# Altium integrated library Linear Technology Comparators.IntLib: 630 symbols (part 4 of 24)
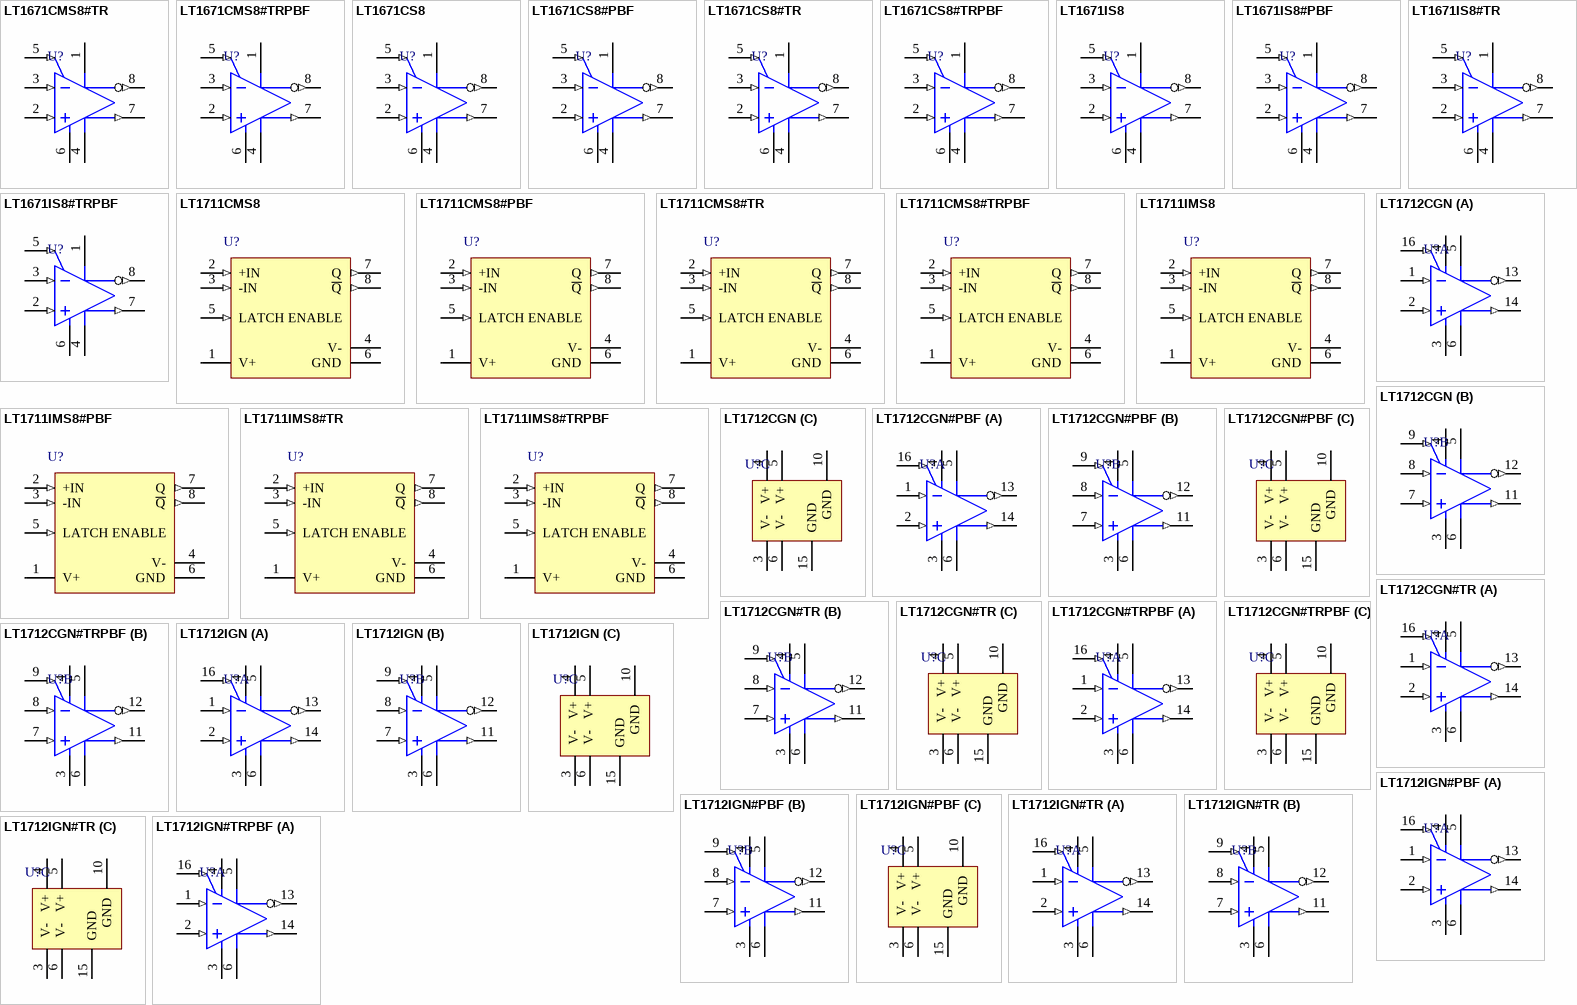
[diagram p27: symbols LT1671CMS8#TR to LT1712IGN#TRPBF]

## LT1712IGN
designator U?
4.5 ns, 3 V / 5 V / + / - 5 V, Rail-to-Rail Comparator, 2 Channels, 2.4 to 12 V or + / - 2.4 to + / - 6 V, -40 to +85 degC, 16-pin Plastic SSOP (GN16); Generic Part Number: LT1712; Manufacturer: Linear Technology; PartNumber: LT1712IGN; Channels (#): 2; Prop Delay (us): 0.0045; Supply Current (uA) Typical: 10000; Vos (mV) Guaranteed: 5; Vos (mV) Typical: 0.5; Vs Max (V): 12; Vs Min (V): 2.4; PackageReference: GN16; PackageDescription: 16-Pin Plastic SSOP, Body 4.89 x 3.9 mm, Pitch 0.635 mm; Supplier 1: Digi-Key; Supplier Part Number 1: LT1712IGN-ND; Supplier 2: Newark; Supplier Part Number 2: 57M5762; Features: Comparator, Rail-to-Rail In/Out, Output Latch; RoHS: N; Supply Voltage Range: 2.4 to 12 V or + / -2.4 to + / -6 V; Mounting Technology: Surface Mount; ComponentLink1Description: Manufacturer URL; ComponentLink1URL: http://www.linear.com/; ComponentLink2Description: Datasheet; ComponentLink2URL: http://cds.linear.com/docs/en/datasheet/171112f.pdf; ComponentLink3Description: Package Specification; ComponentLink3URL: http://cds.linear.com/docs/en/packaging/05081641_B_GN16.pdf
footprint LT-GN16_N (SOP, 16-Leads, Body 4.89x3.9mm, Pitch 0.635mm, , IPC Medium Density)
footprint LT-GN16_L (SOP, 16-Leads, Body 4.89x3.9mm, Pitch 0.635mm, , IPC High Density)
footprint LT-GN16_M (SOP, 16-Leads, Body 4.89x3.9mm, Pitch 0.635mm, , IPC Low Density)
pins on every part: 3 V- (power), 4 V+ (power), 5 V+ (power), 6 V- (power)
part A pins: 1 -INA (in), 2 +INA (in), 13 ~{Q}A (out), 14 QA (out), 16 LATCHENABEL A (in)
part B pins: 7 +INB (in), 8 -INB (in), 9 LATCHENABLE B (in), 11 QB (out), 12 ~{Q}B (out)
part C pins: 10 GND (power), 15 GND (power)

## LT1712IGN#PBF
designator U?
4.5ns, 3 V / 5 V / + / - 5 V, Rail-to-Rail Comparator, 2 Channels, 2.4 to 12 V or + / - 2.4 to + / - 6 V, -40 to +85 degC, 16-pin Plastic SSOP (GN16); Generic Part Number: LT1712; Manufacturer: Linear Technology; PartNumber: LT1712IGN#PBF; Channels (#): 2; Prop Delay (us): 0.0045; Supply Current (uA) Typical: 10000; Vos (mV) Guaranteed: 5; Vos (mV) Typical: 0.5; Vs Max (V): 12; Vs Min (V): 2.4; PackageReference: GN16; PackageDescription: 16-Pin Plastic SSOP, Body 4.89 x 3.9 mm, Pitch 0.635 mm; Supplier 1: Digi-Key; Supplier Part Number 1: LT1712IGN#PBF-ND; Supplier 2: Newark; Supplier Part Number 2: 57M5763; Features: Comparator, Rail-to-Rail In/Out, Output Latch; RoHS: Y; Supply Voltage Range: 2.4 to 12 V or + / -2.4 to + / -6 V; Mounting Technology: Surface Mount; ComponentLink1Description: Manufacturer URL; ComponentLink1URL: http://www.linear.com/; ComponentLink2Description: Datasheet; ComponentLink2URL: http://cds.linear.com/docs/en/datasheet/171112f.pdf; ComponentLink3Description: Package Specification; ComponentLink3URL: http://cds.linear.com/docs/en/packaging/05081641_B_GN16.pdf
footprint LT-GN16_N (SOP, 16-Leads, Body 4.89x3.9mm, Pitch 0.635mm, , IPC Medium Density)
footprint LT-GN16_L (SOP, 16-Leads, Body 4.89x3.9mm, Pitch 0.635mm, , IPC High Density)
footprint LT-GN16_M (SOP, 16-Leads, Body 4.89x3.9mm, Pitch 0.635mm, , IPC Low Density)
pins on every part: 3 V- (power), 4 V+ (power), 5 V+ (power), 6 V- (power)
part A pins: 1 -INA (in), 2 +INA (in), 13 ~{Q}A (out), 14 QA (out), 16 LATCHENABEL A (in)
part B pins: 7 +INB (in), 8 -INB (in), 9 LATCHENABLE B (in), 11 QB (out), 12 ~{Q}B (out)
part C pins: 10 GND (power), 15 GND (power)

## LT1712IGN#TR
designator U?
4.5ns, 3 V / 5 V / + / - 5 V, Rail-to-Rail Comparator, 2 Channels, 2.4 to 12 V or + / - 2.4 to + / - 6 V, -40 to +85 degC, 16-pin Plastic SSOP (GN16), Tape and Reel; Generic Part Number: LT1712; Manufacturer: Linear Technology; PartNumber: LT1712IGN#TR; Channels (#): 2; Prop Delay (us): 0.0045; Supply Current (uA) Typical: 10000; Vos (mV) Guaranteed: 5; Vos (mV) Typical: 0.5; Vs Max (V): 12; Vs Min (V): 2.4; PackageReference: GN16; PackageDescription: 16-Pin Plastic SSOP, Body 4.89 x 3.9 mm, Pitch 0.635 mm; Supplier 1: Digi-Key; Supplier Part Number 1: LT1712IGN#TR-ND; Features: Comparator, Rail-to-Rail In/Out, Output Latch; RoHS: N; Supply Voltage Range: 2.4 to 12 V or + / -2.4 to + / -6 V; Mounting Technology: Surface Mount; ComponentLink1Description: Manufacturer URL; ComponentLink1URL: http://www.linear.com/; ComponentLink2Description: Datasheet; ComponentLink2URL: http://cds.linear.com/docs/en/datasheet/171112f.pdf; ComponentLink3Description: Package Specification; ComponentLink3URL: http://cds.linear.com/docs/en/packaging/05081641_B_GN16.pdf
footprint LT-GN16_N (SOP, 16-Leads, Body 4.89x3.9mm, Pitch 0.635mm, , IPC Medium Density)
footprint LT-GN16_L (SOP, 16-Leads, Body 4.89x3.9mm, Pitch 0.635mm, , IPC High Density)
footprint LT-GN16_M (SOP, 16-Leads, Body 4.89x3.9mm, Pitch 0.635mm, , IPC Low Density)
pins on every part: 3 V- (power), 4 V+ (power), 5 V+ (power), 6 V- (power)
part A pins: 1 -INA (in), 2 +INA (in), 13 ~{Q}A (out), 14 QA (out), 16 LATCHENABEL A (in)
part B pins: 7 +INB (in), 8 -INB (in), 9 LATCHENABLE B (in), 11 QB (out), 12 ~{Q}B (out)
part C pins: 10 GND (power), 15 GND (power)

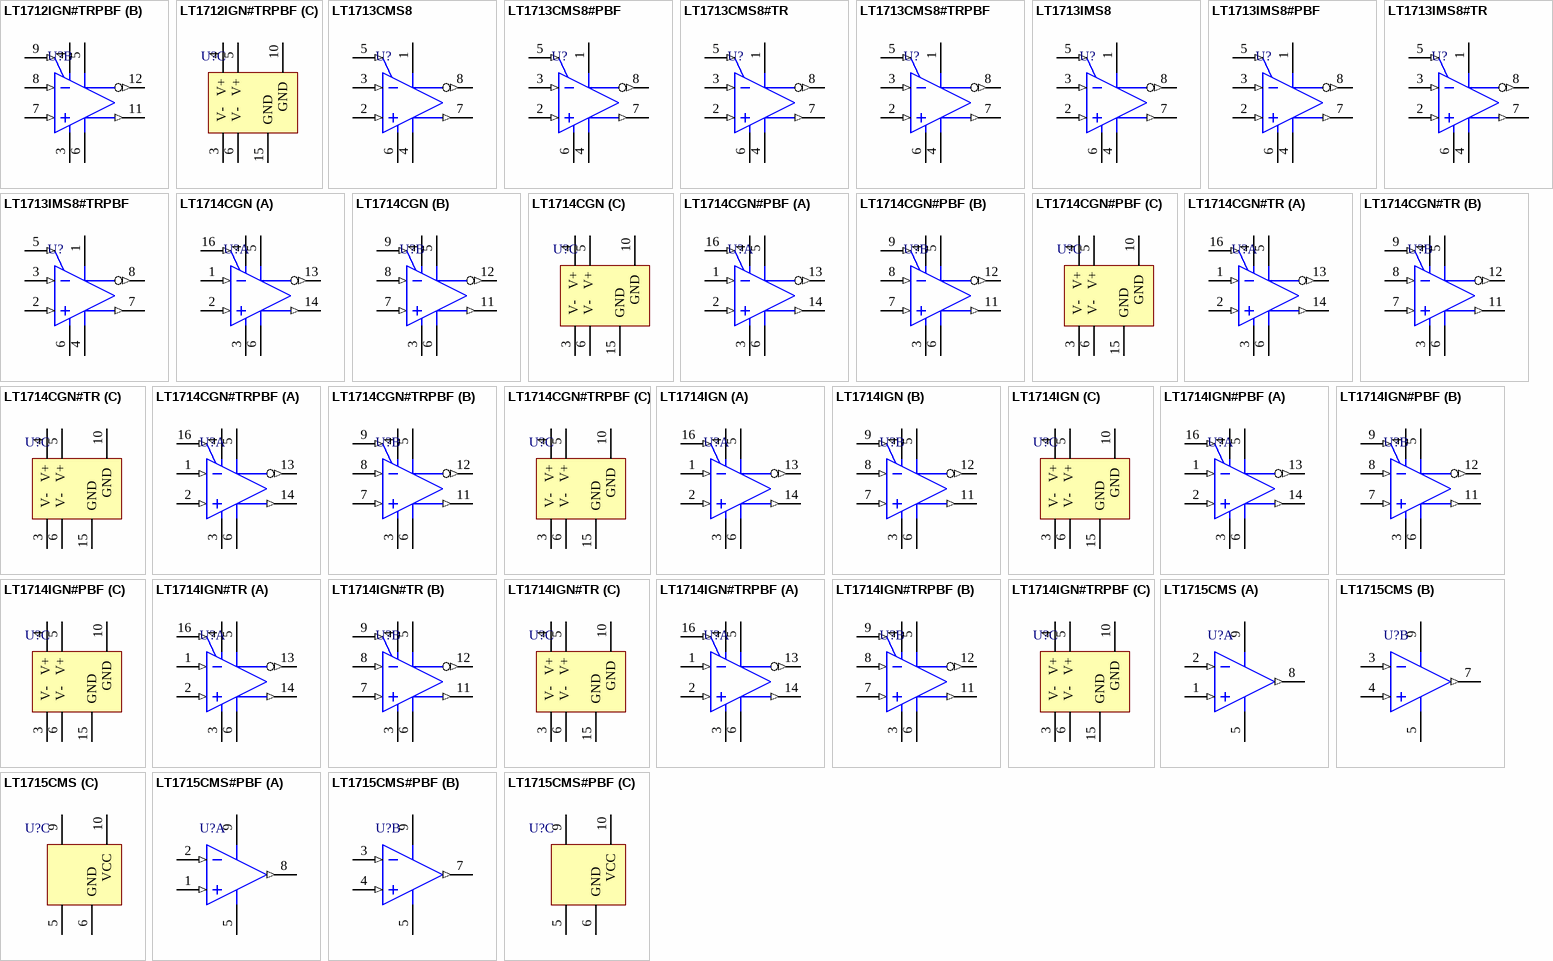
[diagram p4: symbols LT1712IGN#TRPBF to LT1715CMS#PBF]

## LT1712IGN#TRPBF
designator U?
4.5ns, 3 V / 5 V / + / - 5 V, Rail-to-Rail Comparator, 2 Channels, 2.4 to 12 V or + / - 2.4 to + / - 6 V, -40 to +85 degC, 16-pin Plastic SSOP (GN16), Tape and Reel; Generic Part Number: LT1712; Manufacturer: Linear Technology; PartNumber: LT1712IGN#TRPBF; Channels (#): 2; Prop Delay (us): 0.0045; Supply Current (uA) Typical: 10000; Vos (mV) Guaranteed: 5; Vos (mV) Typical: 0.5; Vs Max (V): 12; Vs Min (V): 2.4; PackageReference: GN16; PackageDescription: 16-Pin Plastic SSOP, Body 4.89 x 3.9 mm, Pitch 0.635 mm; Supplier 1: Digi-Key; Supplier Part Number 1: LT1712IGN#TRPBF-ND; Features: Comparator, Rail-to-Rail In/Out, Output Latch; RoHS: Y; Supply Voltage Range: 2.4 to 12 V or + / -2.4 to + / -6 V; Mounting Technology: Surface Mount; ComponentLink1Description: Manufacturer URL; ComponentLink1URL: http://www.linear.com/; ComponentLink2Description: Datasheet; ComponentLink2URL: http://cds.linear.com/docs/en/datasheet/171112f.pdf; ComponentLink3Description: Package Specification; ComponentLink3URL: http://cds.linear.com/docs/en/packaging/05081641_B_GN16.pdf
footprint LT-GN16_N (SOP, 16-Leads, Body 4.89x3.9mm, Pitch 0.635mm, , IPC Medium Density)
footprint LT-GN16_L (SOP, 16-Leads, Body 4.89x3.9mm, Pitch 0.635mm, , IPC High Density)
footprint LT-GN16_M (SOP, 16-Leads, Body 4.89x3.9mm, Pitch 0.635mm, , IPC Low Density)
pins on every part: 3 V- (power), 4 V+ (power), 5 V+ (power), 6 V- (power)
part A pins: 1 -INA (in), 2 +INA (in), 13 ~{Q}A (out), 14 QA (out), 16 LATCHENABEL A (in)
part B pins: 7 +INB (in), 8 -INB (in), 9 LATCHENABLE B (in), 11 QB (out), 12 ~{Q}B (out)
part C pins: 10 GND (power), 15 GND (power)

## LT1713CMS8
designator U?
7 ns, Low Power, 3 V / 5 V / + / - 5 V Rail-to-Rail Comparator, 1 Channel, 2.4 to 12 V, 0 to +70 degC, 8-pin Plastic MSOP (MS8); Generic Part Number: LT1713; Manufacturer: Linear Technology; PartNumber: LT1713CMS8; Channels (#): 1; Prop Delay (us): 0.007; Supply Current (uA) Typical: 4000; Vos (mV) Typical: 3; Vs Max (V): 12; Vs Min (V): 2.4; PackageReference: MS8; PackageDescription: 8-Pin Plastic MSOP, Body 3 x 3 mm, Pitch 0.65 mm; Supplier 1: Digi-Key; Supplier Part Number 1: LT1713CMS8-ND; Supplier 2: Newark; Supplier Part Number 2: 57M5766; Features: Comparator, Rail-to-Rail In/Out, Output Latch; RoHS: N; Supply Voltage Range: 2.4 to 12 V; Mounting Technology: Surface Mount; ComponentLink1Description: Manufacturer URL; ComponentLink1URL: http://www.linear.com/; ComponentLink2Description: Datasheet; ComponentLink2URL: http://cds.linear.com/docs/en/datasheet/171314f.pdf; ComponentLink3Description: Package Specification; ComponentLink3URL: http://cds.linear.com/docs/en/packaging/MSOP_8_05-08-1660.pdf
footprint LT-MS8_N (SOP, 8-Leads, Body 3x3mm, Pitch 0.65mm, IPC Medium Density)
footprint LT-MS8_L (SOP, 8-Leads, Body 3x3mm, Pitch 0.65mm, IPC High Density)
footprint LT-MS8_M (SOP, 8-Leads, Body 3x3mm, Pitch 0.65mm, IPC Low Density)
pins: 1 V+ (power), 2 +IN (in), 3 -IN (in), 4 V- (power), 5 LATCHENABLE (in), 6 GND (power), 7 QOUT (out), 8 ~{Q}OUT (out)

## LT1713CMS8#PBF
designator U?
7 ns, Low Power, 3 V / 5 V / + / - 5 V Rail-to-Rail Comparator, 1 Channel, 2.4 to 12 V, 0 to +70 degC, 8-pin Plastic MSOP (MS8); Generic Part Number: LT1713; Manufacturer: Linear Technology; PartNumber: LT1713CMS8#PBF; Channels (#): 1; Prop Delay (us): 0.007; Supply Current (uA) Typical: 4000; Vos (mV) Typical: 3; Vs Max (V): 12; Vs Min (V): 2.4; PackageReference: MS8; PackageDescription: 8-Pin Plastic MSOP, Body 3 x 3 mm, Pitch 0.65 mm; Supplier 1: Digi-Key; Supplier Part Number 1: LT1713CMS8#PBF-ND; Supplier 2: Farnell; Supplier Part Number 2: 1417740; Supplier 3: Newark; Supplier Part Number 3: 57M5767; Features: Comparator, Rail-to-Rail In/Out, Output Latch; RoHS: Y; Supply Voltage Range: 2.4 to 12 V; Mounting Technology: Surface Mount; ComponentLink1Description: Manufacturer URL; ComponentLink1URL: http://www.linear.com/; ComponentLink2Description: Datasheet; ComponentLink2URL: http://cds.linear.com/docs/en/datasheet/171314f.pdf; ComponentLink3Description: Package Specification; ComponentLink3URL: http://cds.linear.com/docs/en/packaging/MSOP_8_05-08-1660.pdf
footprint LT-MS8_N (SOP, 8-Leads, Body 3x3mm, Pitch 0.65mm, IPC Medium Density)
footprint LT-MS8_L (SOP, 8-Leads, Body 3x3mm, Pitch 0.65mm, IPC High Density)
footprint LT-MS8_M (SOP, 8-Leads, Body 3x3mm, Pitch 0.65mm, IPC Low Density)
pins: 1 V+ (power), 2 +IN (in), 3 -IN (in), 4 V- (power), 5 LATCHENABLE (in), 6 GND (power), 7 QOUT (out), 8 ~{Q}OUT (out)

## LT1713CMS8#TR
designator U?
7 ns, Low Power, 3 V / 5 V / + / - 5 V Rail-to-Rail Comparator, 1 Channel, 2.4 to 12 V, 0 to +70 degC, 8-pin Plastic MSOP (MS8), Tape and Reel; Generic Part Number: LT1713; Manufacturer: Linear Technology; PartNumber: LT1713CMS8#TR; Channels (#): 1; Prop Delay (us): 0.007; Supply Current (uA) Typical: 4000; Vos (mV) Typical: 3; Vs Max (V): 12; Vs Min (V): 2.4; PackageReference: MS8; PackageDescription: 8-Pin Plastic MSOP, Body 3 x 3 mm, Pitch 0.65 mm; Supplier 1: Digi-Key; Supplier Part Number 1: LT1713CMS8#TR-ND; Features: Comparator, Rail-to-Rail In/Out, Output Latch; RoHS: N; Supply Voltage Range: 2.4 to 12 V; Mounting Technology: Surface Mount; ComponentLink1Description: Manufacturer URL; ComponentLink1URL: http://www.linear.com/; ComponentLink2Description: Datasheet; ComponentLink2URL: http://cds.linear.com/docs/en/datasheet/171314f.pdf; ComponentLink3Description: Package Specification; ComponentLink3URL: http://cds.linear.com/docs/en/packaging/MSOP_8_05-08-1660.pdf
footprint LT-MS8_N (SOP, 8-Leads, Body 3x3mm, Pitch 0.65mm, IPC Medium Density)
footprint LT-MS8_L (SOP, 8-Leads, Body 3x3mm, Pitch 0.65mm, IPC High Density)
footprint LT-MS8_M (SOP, 8-Leads, Body 3x3mm, Pitch 0.65mm, IPC Low Density)
pins: 1 V+ (power), 2 +IN (in), 3 -IN (in), 4 V- (power), 5 LATCHENABLE (in), 6 GND (power), 7 QOUT (out), 8 ~{Q}OUT (out)

## LT1713CMS8#TRPBF
designator U?
Signal, 7 ns, Low Power, 3 V / 5 V / + / - 5 V Rail-to-Rail Comparator, 1 Channel, 2.4 to 12 V, 0 to +70 degC, 8-pin Plastic MSOP (MS8), Tape and Reel; Generic Part Number: LT1713; Manufacturer: Linear Technology; PartNumber: LT1713CMS8#TRPBF; Channels (#): 1; Prop Delay (us): 0.007; Supply Current (uA) Typical: 4000; Vos (mV) Typical: 3; Vs Max (V): 12; Vs Min (V): 2.4; PackageReference: MS8; PackageDescription: 8-Pin Plastic MSOP, Body 3 x 3 mm, Pitch 0.65 mm; Supplier 1: Digi-Key; Supplier Part Number 1: LT1713CMS8#TRPBF-ND; Supplier 2: Newark; Supplier Part Number 2: 57M5769; Features: Comparator, Rail-to-Rail In/Out, Output Latch; RoHS: Y; Supply Voltage Range: 2.4 to 12 V; Mounting Technology: Surface Mount; ComponentLink1Description: Manufacturer URL; ComponentLink1URL: http://www.linear.com/; ComponentLink2Description: Datasheet; ComponentLink2URL: http://cds.linear.com/docs/en/datasheet/171314f.pdf; ComponentLink3Description: Package Specification; ComponentLink3URL: http://cds.linear.com/docs/en/packaging/MSOP_8_05-08-1660.pdf
footprint LT-MS8_N (SOP, 8-Leads, Body 3x3mm, Pitch 0.65mm, IPC Medium Density)
footprint LT-MS8_L (SOP, 8-Leads, Body 3x3mm, Pitch 0.65mm, IPC High Density)
footprint LT-MS8_M (SOP, 8-Leads, Body 3x3mm, Pitch 0.65mm, IPC Low Density)
pins: 1 V+ (power), 2 +IN (in), 3 -IN (in), 4 V- (power), 5 LATCHENABLE (in), 6 GND (power), 7 QOUT (out), 8 ~{Q}OUT (out)

## LT1713IMS8
designator U?
Signal, 7 ns, Low Power, 3 V / 5 V / + / - 5 V Rail-to-Rail Comparator, 1 Channel, 2.4 to 12 V, -40 to +85 degC, 8-pin Plastic MSOP (MS8); Generic Part Number: LT1713; Manufacturer: Linear Technology; PartNumber: LT1713IMS8; Channels (#): 1; Prop Delay (us): 0.007; Supply Current (uA) Typical: 4000; Vos (mV) Typical: 3; Vs Max (V): 12; Vs Min (V): 2.4; PackageReference: MS8; PackageDescription: 8-Pin Plastic MSOP, Body 3 x 3 mm, Pitch 0.65 mm; Supplier 1: Digi-Key; Supplier Part Number 1: LT1713IMS8-ND; Supplier 2: Newark; Supplier Part Number 2: 57M5770; Features: Comparator, Rail-to-Rail In/Out, Output Latch; RoHS: N; Supply Voltage Range: 2.4 to 12 V; Mounting Technology: Surface Mount; ComponentLink1Description: Manufacturer URL; ComponentLink1URL: http://www.linear.com/; ComponentLink2Description: Datasheet; ComponentLink2URL: http://cds.linear.com/docs/en/datasheet/171314f.pdf; ComponentLink3Description: Package Specification; ComponentLink3URL: http://cds.linear.com/docs/en/packaging/MSOP_8_05-08-1660.pdf
footprint LT-MS8_N (SOP, 8-Leads, Body 3x3mm, Pitch 0.65mm, IPC Medium Density)
footprint LT-MS8_L (SOP, 8-Leads, Body 3x3mm, Pitch 0.65mm, IPC High Density)
footprint LT-MS8_M (SOP, 8-Leads, Body 3x3mm, Pitch 0.65mm, IPC Low Density)
pins: 1 V+ (power), 2 +IN (in), 3 -IN (in), 4 V- (power), 5 LATCHENABLE (in), 6 GND (power), 7 QOUT (out), 8 ~{Q}OUT (out)

## LT1713IMS8#PBF
designator U?
Signal, 7 ns, Low Power, 3 V / 5 V / + / - 5 V Rail-to-Rail Comparator, 1 Channel, 2.4 to 12 V, -40 to +85 degC, 8-pin Plastic MSOP (MS8); Generic Part Number: LT1713; Manufacturer: Linear Technology; PartNumber: LT1713IMS8#PBF; Channels (#): 1; Prop Delay (us): 0.007; Supply Current (uA) Typical: 4000; Vos (mV) Typical: 3; Vs Max (V): 12; Vs Min (V): 2.4; PackageReference: MS8; PackageDescription: 8-Pin Plastic MSOP, Body 3 x 3 mm, Pitch 0.65 mm; Supplier 1: Digi-Key; Supplier Part Number 1: LT1713IMS8#PBF-ND; Supplier 2: Newark; Supplier Part Number 2: 57M5771; Features: Comparator, Rail-to-Rail In/Out, Output Latch; RoHS: Y; Supply Voltage Range: 2.4 to 12 V; Mounting Technology: Surface Mount; ComponentLink1Description: Manufacturer URL; ComponentLink1URL: http://www.linear.com/; ComponentLink2Description: Datasheet; ComponentLink2URL: http://cds.linear.com/docs/en/datasheet/171314f.pdf; ComponentLink3Description: Package Specification; ComponentLink3URL: http://cds.linear.com/docs/en/packaging/MSOP_8_05-08-1660.pdf
footprint LT-MS8_N (SOP, 8-Leads, Body 3x3mm, Pitch 0.65mm, IPC Medium Density)
footprint LT-MS8_L (SOP, 8-Leads, Body 3x3mm, Pitch 0.65mm, IPC High Density)
footprint LT-MS8_M (SOP, 8-Leads, Body 3x3mm, Pitch 0.65mm, IPC Low Density)
pins: 1 V+ (power), 2 +IN (in), 3 -IN (in), 4 V- (power), 5 LATCHENABLE (in), 6 GND (power), 7 QOUT (out), 8 ~{Q}OUT (out)

## LT1713IMS8#TR
designator U?
Signal, 7 ns, Low Power, 3 V / 5 V / + / - 5 V Rail-to-Rail Comparator, 1 Channel, 2.4 to 12 V, -40 to +85 degC, 8-pin Plastic MSOP (MS8), Tape and Reel; Generic Part Number: LT1713; Manufacturer: Linear Technology; PartNumber: LT1713IMS8#TR; Channels (#): 1; Prop Delay (us): 0.007; Supply Current (uA) Typical: 4000; Vos (mV) Typical: 3; Vs Max (V): 12; Vs Min (V): 2.4; PackageReference: MS8; PackageDescription: 8-Pin Plastic MSOP, Body 3 x 3 mm, Pitch 0.65 mm; Supplier 1: Digi-Key; Supplier Part Number 1: LT1713IMS8TR-ND; Features: Comparator, Rail-to-Rail In/Out, Output Latch; RoHS: N; Supply Voltage Range: 2.4 to 12 V; Mounting Technology: Surface Mount; ComponentLink1Description: Manufacturer URL; ComponentLink1URL: http://www.linear.com/; ComponentLink2Description: Datasheet; ComponentLink2URL: http://cds.linear.com/docs/en/datasheet/171314f.pdf; ComponentLink3Description: Package Specification; ComponentLink3URL: http://cds.linear.com/docs/en/packaging/MSOP_8_05-08-1660.pdf
footprint LT-MS8_N (SOP, 8-Leads, Body 3x3mm, Pitch 0.65mm, IPC Medium Density)
footprint LT-MS8_L (SOP, 8-Leads, Body 3x3mm, Pitch 0.65mm, IPC High Density)
footprint LT-MS8_M (SOP, 8-Leads, Body 3x3mm, Pitch 0.65mm, IPC Low Density)
pins: 1 V+ (power), 2 +IN (in), 3 -IN (in), 4 V- (power), 5 LATCHENABLE (in), 6 GND (power), 7 QOUT (out), 8 ~{Q}OUT (out)

## LT1713IMS8#TRPBF
designator U?
Signal, 7 ns, Low Power, 3 V / 5 V / + / - 5 V Rail-to-Rail Comparator, 1 Channel, 2.4 to 12 V, -40 to +85 degC, 8-pin Plastic MSOP (MS8), Tape and Reel; Generic Part Number: LT1713; Manufacturer: Linear Technology; PartNumber: LT1713IMS8#TRPBF; Channels (#): 1; Prop Delay (us): 0.007; Supply Current (uA) Typical: 4000; Vos (mV) Typical: 3; Vs Max (V): 12; Vs Min (V): 2.4; PackageReference: MS8; PackageDescription: 8-Pin Plastic MSOP, Body 3 x 3 mm, Pitch 0.65 mm; Supplier 1: Digi-Key; Supplier Part Number 1: LT1713IMS8#TRPBF-ND; Supplier 2: Newark; Supplier Part Number 2: 57M5773; Features: Comparator, Rail-to-Rail In/Out, Output Latch; RoHS: Y; Supply Voltage Range: 2.4 to 12 V; Mounting Technology: Surface Mount; ComponentLink1Description: Manufacturer URL; ComponentLink1URL: http://www.linear.com/; ComponentLink2Description: Datasheet; ComponentLink2URL: http://cds.linear.com/docs/en/datasheet/171314f.pdf; ComponentLink3Description: Package Specification; ComponentLink3URL: http://cds.linear.com/docs/en/packaging/MSOP_8_05-08-1660.pdf
footprint LT-MS8_N (SOP, 8-Leads, Body 3x3mm, Pitch 0.65mm, IPC Medium Density)
footprint LT-MS8_L (SOP, 8-Leads, Body 3x3mm, Pitch 0.65mm, IPC High Density)
footprint LT-MS8_M (SOP, 8-Leads, Body 3x3mm, Pitch 0.65mm, IPC Low Density)
pins: 1 V+ (power), 2 +IN (in), 3 -IN (in), 4 V- (power), 5 LATCHENABLE (in), 6 GND (power), 7 QOUT (out), 8 ~{Q}OUT (out)

## LT1714CGN
designator U?
7 ns, Low Power, 3 V / 5 V / + / - 5 V Rail-to-Rail Comparator, 2 Channels, 2.4 to 12 V, 0 to +70 degC, 16-pin Plastic SSOP (GN16); Generic Part Number: LT1714; Manufacturer: Linear Technology; PartNumber: LT1714CGN; Channels (#): 2; Prop Delay (us): 0.007; Supply Current (uA) Typical: 4000; Vos (mV) Typical: 3; Vs Max (V): 12; Vs Min (V): 2.4; PackageReference: GN16; PackageDescription: 16-Pin Plastic SSOP, Body 4.89 x 3.9 mm, Pitch 0.635 mm; Supplier 1: Digi-Key; Supplier Part Number 1: LT1714CGN-ND; Supplier 2: Newark; Supplier Part Number 2: 57M5774; Features: Comparator, Rail-to-Rail In/Out, Output Latch; RoHS: N; Supply Voltage Range: 2.4 to 12 V; Mounting Technology: Surface Mount; ComponentLink1Description: Manufacturer URL; ComponentLink1URL: http://www.linear.com/; ComponentLink2Description: Datasheet; ComponentLink2URL: http://cds.linear.com/docs/en/datasheet/171314f.pdf; ComponentLink3Description: Package Specification; ComponentLink3URL: http://cds.linear.com/docs/en/packaging/05081641_B_GN16.pdf
footprint LT-GN16_N (SOP, 16-Leads, Body 4.89x3.9mm, Pitch 0.635mm, , IPC Medium Density)
footprint LT-GN16_L (SOP, 16-Leads, Body 4.89x3.9mm, Pitch 0.635mm, , IPC High Density)
footprint LT-GN16_M (SOP, 16-Leads, Body 4.89x3.9mm, Pitch 0.635mm, , IPC Low Density)
pins on every part: 3 V- (power), 4 V+ (power), 5 V+ (power), 6 V- (power)
part A pins: 1 -INA (in), 2 +INA (in), 13 ~{Q}A (out), 14 QA (out), 16 LATCHENABEL A (in)
part B pins: 7 +INB (in), 8 -INB (in), 9 LATCHENABLE B (in), 11 QB (out), 12 ~{Q}B (out)
part C pins: 10 GND (power), 15 GND (power)

## LT1714CGN#PBF
designator U?
7 ns, Low Power, 3 V / 5 V / + / - 5 V Rail-to-Rail Comparator, 2 Channels, 2.4 to 12 V, 0 to +70 degC, 16-pin Plastic SSOP (GN16); Generic Part Number: LT1714; Manufacturer: Linear Technology; PartNumber: LT1714CGN#PBF; Channels (#): 2; Prop Delay (us): 0.007; Supply Current (uA) Typical: 4000; Vos (mV) Typical: 3; Vs Max (V): 12; Vs Min (V): 2.4; PackageReference: GN16; PackageDescription: 16-Pin Plastic SSOP, Body 4.89 x 3.9 mm, Pitch 0.635 mm; Supplier 1: Digi-Key; Supplier Part Number 1: LT1714CGN#PBF-ND; Supplier 2: Farnell; Supplier Part Number 2: 1663470; Supplier 3: Newark; Supplier Part Number 3: 57M5775; Features: Comparator, Rail-to-Rail In/Out, Output Latch; RoHS: Y; Supply Voltage Range: 2.4 to 12 V; Mounting Technology: Surface Mount; ComponentLink1Description: Manufacturer URL; ComponentLink1URL: http://www.linear.com/; ComponentLink2Description: Datasheet; ComponentLink2URL: http://cds.linear.com/docs/en/datasheet/171314f.pdf; ComponentLink3Description: Package Specification; ComponentLink3URL: http://cds.linear.com/docs/en/packaging/05081641_B_GN16.pdf
footprint LT-GN16_N (SOP, 16-Leads, Body 4.89x3.9mm, Pitch 0.635mm, , IPC Medium Density)
footprint LT-GN16_L (SOP, 16-Leads, Body 4.89x3.9mm, Pitch 0.635mm, , IPC High Density)
footprint LT-GN16_M (SOP, 16-Leads, Body 4.89x3.9mm, Pitch 0.635mm, , IPC Low Density)
pins on every part: 3 V- (power), 4 V+ (power), 5 V+ (power), 6 V- (power)
part A pins: 1 -INA (in), 2 +INA (in), 13 ~{Q}A (out), 14 QA (out), 16 LATCHENABEL A (in)
part B pins: 7 +INB (in), 8 -INB (in), 9 LATCHENABLE B (in), 11 QB (out), 12 ~{Q}B (out)
part C pins: 10 GND (power), 15 GND (power)

## LT1714CGN#TR
designator U?
7 ns, Low Power, 3 V / 5 V / + / - 5 V Rail-to-Rail Comparator, 2 Channels, 2.4 to 12 V, 0 to +70 degC, 16-pin Plastic SSOP (GN16), Tape and Reel; Generic Part Number: LT1714; Manufacturer: Linear Technology; PartNumber: LT1714CGN#TR; Channels (#): 2; Prop Delay (us): 0.007; Supply Current (uA) Typical: 4000; Vos (mV) Typical: 3; Vs Max (V): 12; Vs Min (V): 2.4; PackageReference: GN16; PackageDescription: 16-Pin Plastic SSOP, Body 4.89 x 3.9 mm, Pitch 0.635 mm; Supplier 1: Digi-Key; Supplier Part Number 1: LT1714CGN#TR-ND; Features: Comparator, Rail-to-Rail In/Out, Output Latch; RoHS: N; Supply Voltage Range: 2.4 to 12 V; Mounting Technology: Surface Mount; ComponentLink1Description: Manufacturer URL; ComponentLink1URL: http://www.linear.com/; ComponentLink2Description: Datasheet; ComponentLink2URL: http://cds.linear.com/docs/en/datasheet/171314f.pdf; ComponentLink3Description: Package Specification; ComponentLink3URL: http://cds.linear.com/docs/en/packaging/05081641_B_GN16.pdf
footprint LT-GN16_N (SOP, 16-Leads, Body 4.89x3.9mm, Pitch 0.635mm, , IPC Medium Density)
footprint LT-GN16_L (SOP, 16-Leads, Body 4.89x3.9mm, Pitch 0.635mm, , IPC High Density)
footprint LT-GN16_M (SOP, 16-Leads, Body 4.89x3.9mm, Pitch 0.635mm, , IPC Low Density)
pins on every part: 3 V- (power), 4 V+ (power), 5 V+ (power), 6 V- (power)
part A pins: 1 -INA (in), 2 +INA (in), 13 ~{Q}A (out), 14 QA (out), 16 LATCHENABEL A (in)
part B pins: 7 +INB (in), 8 -INB (in), 9 LATCHENABLE B (in), 11 QB (out), 12 ~{Q}B (out)
part C pins: 10 GND (power), 15 GND (power)

## LT1714CGN#TRPBF
designator U?
7 ns, Low Power, 3 V / 5 V / + / - 5 V Rail-to-Rail Comparator, 2 Channels, 2.4 to 12 V, 0 to +70 degC, 16-pin Plastic SSOP (GN16), Tape and Reel; Generic Part Number: LT1714; Manufacturer: Linear Technology; PartNumber: LT1714CGN#TRPBF; Channels (#): 2; Prop Delay (us): 0.007; Supply Current (uA) Typical: 4000; Vos (mV) Typical: 3; Vs Max (V): 12; Vs Min (V): 2.4; PackageReference: GN16; PackageDescription: 16-Pin Plastic SSOP, Body 4.89 x 3.9 mm, Pitch 0.635 mm; Supplier 1: Digi-Key; Supplier Part Number 1: LT1714CGN#TRPBF-ND; Features: Comparator, Rail-to-Rail In/Out, Output Latch; RoHS: Y; Supply Voltage Range: 2.4 to 12 V; Mounting Technology: Surface Mount; ComponentLink1Description: Manufacturer URL; ComponentLink1URL: http://www.linear.com/; ComponentLink2Description: Datasheet; ComponentLink2URL: http://cds.linear.com/docs/en/datasheet/171314f.pdf; ComponentLink3Description: Package Specification; ComponentLink3URL: http://cds.linear.com/docs/en/packaging/05081641_B_GN16.pdf
footprint LT-GN16_N (SOP, 16-Leads, Body 4.89x3.9mm, Pitch 0.635mm, , IPC Medium Density)
footprint LT-GN16_L (SOP, 16-Leads, Body 4.89x3.9mm, Pitch 0.635mm, , IPC High Density)
footprint LT-GN16_M (SOP, 16-Leads, Body 4.89x3.9mm, Pitch 0.635mm, , IPC Low Density)
pins on every part: 3 V- (power), 4 V+ (power), 5 V+ (power), 6 V- (power)
part A pins: 1 -INA (in), 2 +INA (in), 13 ~{Q}A (out), 14 QA (out), 16 LATCHENABEL A (in)
part B pins: 7 +INB (in), 8 -INB (in), 9 LATCHENABLE B (in), 11 QB (out), 12 ~{Q}B (out)
part C pins: 10 GND (power), 15 GND (power)

## LT1714IGN
designator U?
7 ns, Low Power, 3 V / 5 V / + / - 5 V Rail-to-Rail Comparator, 2 Channels, 2.4 to 12 V, -40 to +85 degC, 16-pin Plastic SSOP (GN16); Generic Part Number: LT1714; Manufacturer: Linear Technology; PartNumber: LT1714IGN; Channels (#): 2; Prop Delay (us): 0.007; Supply Current (uA) Typical: 4000; Vos (mV) Typical: 3; Vs Max (V): 12; Vs Min (V): 2.4; PackageReference: GN16; PackageDescription: 16-Pin Plastic SSOP, Body 4.89 x 3.9 mm, Pitch 0.635 mm; Supplier 1: Digi-Key; Supplier Part Number 1: LT1714IGN-ND; Supplier 2: Newark; Supplier Part Number 2: 57M5778; Features: Comparator, Rail-to-Rail In/Out, Output Latch; RoHS: N; Supply Voltage Range: 2.4 to 12 V; Mounting Technology: Surface Mount; ComponentLink1Description: Manufacturer URL; ComponentLink1URL: http://www.linear.com/; ComponentLink2Description: Datasheet; ComponentLink2URL: http://cds.linear.com/docs/en/datasheet/171314f.pdf; ComponentLink3Description: Package Specification; ComponentLink3URL: http://cds.linear.com/docs/en/packaging/05081641_B_GN16.pdf
footprint LT-GN16_N (SOP, 16-Leads, Body 4.89x3.9mm, Pitch 0.635mm, , IPC Medium Density)
footprint LT-GN16_L (SOP, 16-Leads, Body 4.89x3.9mm, Pitch 0.635mm, , IPC High Density)
footprint LT-GN16_M (SOP, 16-Leads, Body 4.89x3.9mm, Pitch 0.635mm, , IPC Low Density)
pins on every part: 3 V- (power), 4 V+ (power), 5 V+ (power), 6 V- (power)
part A pins: 1 -INA (in), 2 +INA (in), 13 ~{Q}A (out), 14 QA (out), 16 LATCHENABEL A (in)
part B pins: 7 +INB (in), 8 -INB (in), 9 LATCHENABLE B (in), 11 QB (out), 12 ~{Q}B (out)
part C pins: 10 GND (power), 15 GND (power)

## LT1714IGN#PBF
designator U?
7 ns, Low Power, 3 V / 5 V / + / - 5 V Rail-to-Rail Comparator, 2 Channels, 2.4 to 12 V, -40 to +85 degC, 16-pin Plastic SSOP (GN16); Generic Part Number: LT1714; Manufacturer: Linear Technology; PartNumber: LT1714IGN#PBF; Channels (#): 2; Prop Delay (us): 0.007; Supply Current (uA) Typical: 4000; Vos (mV) Typical: 3; Vs Max (V): 12; Vs Min (V): 2.4; PackageReference: GN16; PackageDescription: 16-Pin Plastic SSOP, Body 4.89 x 3.9 mm, Pitch 0.635 mm; Supplier 1: Digi-Key; Supplier Part Number 1: LT1714IGN#PBF-ND; Supplier 2: Farnell; Supplier Part Number 2: 2254824; Supplier 3: Newark; Supplier Part Number 3: 57M5779; Features: Comparator, Rail-to-Rail In/Out, Output Latch; RoHS: Y; Supply Voltage Range: 2.4 to 12 V; Mounting Technology: Surface Mount; ComponentLink1Description: Manufacturer URL; ComponentLink1URL: http://www.linear.com/; ComponentLink2Description: Datasheet; ComponentLink2URL: http://cds.linear.com/docs/en/datasheet/171314f.pdf; ComponentLink3Description: Package Specification; ComponentLink3URL: http://cds.linear.com/docs/en/packaging/05081641_B_GN16.pdf
footprint LT-GN16_N (SOP, 16-Leads, Body 4.89x3.9mm, Pitch 0.635mm, , IPC Medium Density)
footprint LT-GN16_L (SOP, 16-Leads, Body 4.89x3.9mm, Pitch 0.635mm, , IPC High Density)
footprint LT-GN16_M (SOP, 16-Leads, Body 4.89x3.9mm, Pitch 0.635mm, , IPC Low Density)
pins on every part: 3 V- (power), 4 V+ (power), 5 V+ (power), 6 V- (power)
part A pins: 1 -INA (in), 2 +INA (in), 13 ~{Q}A (out), 14 QA (out), 16 LATCHENABEL A (in)
part B pins: 7 +INB (in), 8 -INB (in), 9 LATCHENABLE B (in), 11 QB (out), 12 ~{Q}B (out)
part C pins: 10 GND (power), 15 GND (power)

## LT1714IGN#TR
designator U?
7 ns, Low Power, 3 V / 5 V / + / - 5 V Rail-to-Rail Comparator, 2 Channels, 2.4 to 12 V, -40 to +85 degC, 16-pin Plastic SSOP (GN16), Tape and Reel; Generic Part Number: LT1714; Manufacturer: Linear Technology; PartNumber: LT1714IGN#TR; Channels (#): 2; Prop Delay (us): 0.007; Supply Current (uA) Typical: 4000; Vos (mV) Typical: 3; Vs Max (V): 12; Vs Min (V): 2.4; PackageReference: GN16; PackageDescription: 16-Pin Plastic SSOP, Body 4.89 x 3.9 mm, Pitch 0.635 mm; Supplier 1: Digi-Key; Supplier Part Number 1: LT1714IGN#TR-ND; Features: Comparator, Rail-to-Rail In/Out, Output Latch; RoHS: N; Supply Voltage Range: 2.4 to 12 V; Mounting Technology: Surface Mount; ComponentLink1Description: Manufacturer URL; ComponentLink1URL: http://www.linear.com/; ComponentLink2Description: Datasheet; ComponentLink2URL: http://cds.linear.com/docs/en/datasheet/171314f.pdf; ComponentLink3Description: Package Specification; ComponentLink3URL: http://cds.linear.com/docs/en/packaging/05081641_B_GN16.pdf
footprint LT-GN16_N (SOP, 16-Leads, Body 4.89x3.9mm, Pitch 0.635mm, , IPC Medium Density)
footprint LT-GN16_L (SOP, 16-Leads, Body 4.89x3.9mm, Pitch 0.635mm, , IPC High Density)
footprint LT-GN16_M (SOP, 16-Leads, Body 4.89x3.9mm, Pitch 0.635mm, , IPC Low Density)
pins on every part: 3 V- (power), 4 V+ (power), 5 V+ (power), 6 V- (power)
part A pins: 1 -INA (in), 2 +INA (in), 13 ~{Q}A (out), 14 QA (out), 16 LATCHENABEL A (in)
part B pins: 7 +INB (in), 8 -INB (in), 9 LATCHENABLE B (in), 11 QB (out), 12 ~{Q}B (out)
part C pins: 10 GND (power), 15 GND (power)

## LT1714IGN#TRPBF
designator U?
7 ns, Low Power, 3 V / 5 V / + / - 5 V Rail-to-Rail Comparator, 2 Channels, 2.4 to 12 V, -40 to +85 degC, 16-pin Plastic SSOP (GN16), Tape and Reel; Generic Part Number: LT1714; Manufacturer: Linear Technology; PartNumber: LT1714IGN#TRPBF; Channels (#): 2; Prop Delay (us): 0.007; Supply Current (uA) Typical: 4000; Vos (mV) Typical: 3; Vs Max (V): 12; Vs Min (V): 2.4; PackageReference: GN16; PackageDescription: 16-Pin Plastic SSOP, Body 4.89 x 3.9 mm, Pitch 0.635 mm; Supplier 1: Digi-Key; Supplier Part Number 1: LT1714IGN#TRPBF-ND; Features: Comparator, Rail-to-Rail In/Out, Output Latch; RoHS: Y; Supply Voltage Range: 2.4 to 12 V; Mounting Technology: Surface Mount; ComponentLink1Description: Manufacturer URL; ComponentLink1URL: http://www.linear.com/; ComponentLink2Description: Datasheet; ComponentLink2URL: http://cds.linear.com/docs/en/datasheet/171314f.pdf; ComponentLink3Description: Package Specification; ComponentLink3URL: http://cds.linear.com/docs/en/packaging/05081641_B_GN16.pdf
footprint LT-GN16_N (SOP, 16-Leads, Body 4.89x3.9mm, Pitch 0.635mm, , IPC Medium Density)
footprint LT-GN16_L (SOP, 16-Leads, Body 4.89x3.9mm, Pitch 0.635mm, , IPC High Density)
footprint LT-GN16_M (SOP, 16-Leads, Body 4.89x3.9mm, Pitch 0.635mm, , IPC Low Density)
pins on every part: 3 V- (power), 4 V+ (power), 5 V+ (power), 6 V- (power)
part A pins: 1 -INA (in), 2 +INA (in), 13 ~{Q}A (out), 14 QA (out), 16 LATCHENABEL A (in)
part B pins: 7 +INB (in), 8 -INB (in), 9 LATCHENABLE B (in), 11 QB (out), 12 ~{Q}B (out)
part C pins: 10 GND (power), 15 GND (power)

## LT1715CMS
designator U?
4 ns, 150 MHz Comparator with Independent Input / Output Supplies, 2 Channels, 2.7 to 12 V, 0 to +70 degC, 10-pin MSOP (MS10); Generic Part Number: LT1715; Manufacturer: Linear Technology; PartNumber: LT1715CMS; Channels (#): 2; Prop Delay (us): 0.004; Supply Current (uA) Typical: 7500; Vos (mV) Guaranteed: 2.5; Vos (mV) Typical: 0.4; Vs Max (V): 12; Vs Min (V): 2.7; DatasheetVersion: Rev A; PackageReference: MS10; PackageDescription: 10-Pin MSOP, Body 3 x 3 mm, Pitch 0.5 mm; Supplier 1: Digi-Key; Supplier Part Number 1: LT1715CMS-ND; Supplier 2: Newark; Supplier Part Number 2: 57M5782; Features: Comparator, Separate In/Out Power Supply; RoHS: N; Supply Voltage Range: 2.7 to 12 V; Mounting Technology: Surface Mount; ComponentLink1Description: Manufacturer URL; ComponentLink1URL: http://www.linear.com/; ComponentLink2Description: Datasheet; ComponentLink2URL: http://cds.linear.com/docs/en/datasheet/1715fa.pdf; ComponentLink3Description: Package Specification; ComponentLink3URL: http://cds.linear.com/docs/en/packaging/MSOP_10_05-08-1661.pdf
footprint LT-MS10_N (SOP, 10-Leads, Body 3x3mm, Pitch 0.5mm, IPC Medium Density)
footprint LT-MS10_L (SOP, 10-Leads, Body 3x3mm, Pitch 0.5mm, IPC High Density)
footprint LT-MS10_M (SOP, 10-Leads, Body 3x3mm, Pitch 0.5mm, IPC Low Density)
pins on every part: 5 VEE (power) "Negative Supply Voltage for Input Stage and Substrate.", 9 +VS (power) "Positive Supply Voltage for Output Stage."
part A pins: 1 +IN A (in) "Noninverting Input of Comparator A.", 2 -IN A (in) "Inverting Input of Comparator A.", 8 OUT A (out) "Output of Comparator A."
part B pins: 3 -IN B (in) "Inverting Input of Comparator B.", 4 +IN B (in) "Noninverting Input of Comparator B.", 7 OUT B (out) "Output of Comparator B."
part C pins: 6 GND (power) "Ground for Output Stage.", 10 VCC (power) "Positive Supply Voltage for Input Stage."

## LT1715CMS#PBF
designator U?
4 ns, 150 MHz Comparator with Independent Input / Output Supplies, 2 Channels, 2.7 to 12 V, 0 to +70 degC, 10-pin MSOP (MS10); Generic Part Number: LT1715; Manufacturer: Linear Technology; PartNumber: LT1715CMS#PBF; Channels (#): 2; Prop Delay (us): 0.004; Supply Current (uA) Typical: 7500; Vos (mV) Guaranteed: 2.5; Vos (mV) Typical: 0.4; Vs Max (V): 12; Vs Min (V): 2.7; DatasheetVersion: Rev A; PackageReference: MS10; PackageDescription: 10-Pin MSOP, Body 3 x 3 mm, Pitch 0.5 mm; Supplier 1: Digi-Key; Supplier Part Number 1: LT1715CMS#PBF-ND; Supplier 2: Farnell; Supplier Part Number 2: 1663472; Supplier 3: Newark; Supplier Part Number 3: 57M5783; Features: Comparator, Separate In/Out Power Supply; RoHS: Y; Supply Voltage Range: 2.7 to 12 V; Mounting Technology: Surface Mount; ComponentLink1Description: Manufacturer URL; ComponentLink1URL: http://www.linear.com/; ComponentLink2Description: Datasheet; ComponentLink2URL: http://cds.linear.com/docs/en/datasheet/1715fa.pdf; ComponentLink3Description: Package Specification; ComponentLink3URL: http://cds.linear.com/docs/en/packaging/MSOP_10_05-08-1661.pdf
footprint LT-MS10_N (SOP, 10-Leads, Body 3x3mm, Pitch 0.5mm, IPC Medium Density)
footprint LT-MS10_L (SOP, 10-Leads, Body 3x3mm, Pitch 0.5mm, IPC High Density)
footprint LT-MS10_M (SOP, 10-Leads, Body 3x3mm, Pitch 0.5mm, IPC Low Density)
pins on every part: 5 VEE (power) "Negative Supply Voltage for Input Stage and Substrate.", 9 +VS (power) "Positive Supply Voltage for Output Stage."
part A pins: 1 +IN A (in) "Noninverting Input of Comparator A.", 2 -IN A (in) "Inverting Input of Comparator A.", 8 OUT A (out) "Output of Comparator A."
part B pins: 3 -IN B (in) "Inverting Input of Comparator B.", 4 +IN B (in) "Noninverting Input of Comparator B.", 7 OUT B (out) "Output of Comparator B."
part C pins: 6 GND (power) "Ground for Output Stage.", 10 VCC (power) "Positive Supply Voltage for Input Stage."

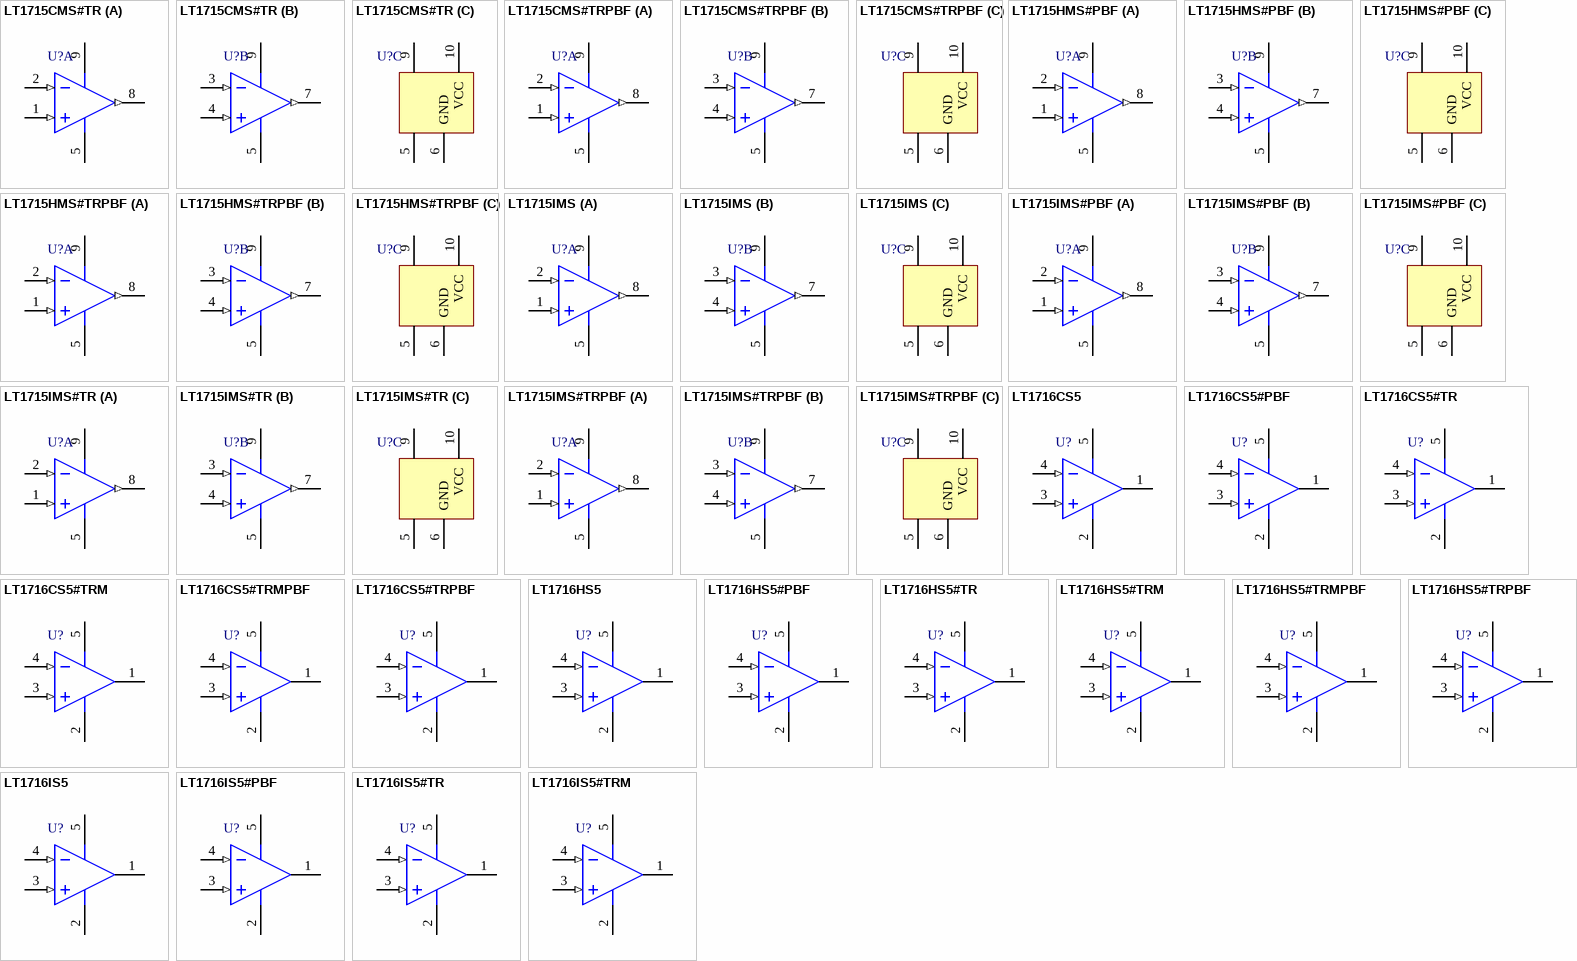
[diagram p5: symbols LT1715CMS#TR to LT1716IS5#TRM]

## LT1715CMS#TR
designator U?
4 ns, 150 MHz Comparator with Independent Input / Output Supplies, 2 Channels, 2.7 to 12 V, 0 to +70 degC, 10-pin MSOP (MS10), Tape and Reel; Generic Part Number: LT1715; Manufacturer: Linear Technology; PartNumber: LT1715CMS#TR; Channels (#): 2; Prop Delay (us): 0.004; Supply Current (uA) Typical: 7500; Vos (mV) Guaranteed: 2.5; Vos (mV) Typical: 0.4; Vs Max (V): 12; Vs Min (V): 2.7; DatasheetVersion: Rev A; PackageReference: MS10; PackageDescription: 10-Pin MSOP, Body 3 x 3 mm, Pitch 0.5 mm; Supplier 1: Digi-Key; Supplier Part Number 1: LT1715CMSTR-ND; Features: Comparator, Separate In/Out Power Supply; RoHS: N; Supply Voltage Range: 2.7 to 12 V; Mounting Technology: Surface Mount; ComponentLink1Description: Manufacturer URL; ComponentLink1URL: http://www.linear.com/; ComponentLink2Description: Datasheet; ComponentLink2URL: http://cds.linear.com/docs/en/datasheet/1715fa.pdf; ComponentLink3Description: Package Specification; ComponentLink3URL: http://cds.linear.com/docs/en/packaging/MSOP_10_05-08-1661.pdf
footprint LT-MS10_N (SOP, 10-Leads, Body 3x3mm, Pitch 0.5mm, IPC Medium Density)
footprint LT-MS10_L (SOP, 10-Leads, Body 3x3mm, Pitch 0.5mm, IPC High Density)
footprint LT-MS10_M (SOP, 10-Leads, Body 3x3mm, Pitch 0.5mm, IPC Low Density)
pins on every part: 5 VEE (power) "Negative Supply Voltage for Input Stage and Substrate.", 9 +VS (power) "Positive Supply Voltage for Output Stage."
part A pins: 1 +IN A (in) "Noninverting Input of Comparator A.", 2 -IN A (in) "Inverting Input of Comparator A.", 8 OUT A (out) "Output of Comparator A."
part B pins: 3 -IN B (in) "Inverting Input of Comparator B.", 4 +IN B (in) "Noninverting Input of Comparator B.", 7 OUT B (out) "Output of Comparator B."
part C pins: 6 GND (power) "Ground for Output Stage.", 10 VCC (power) "Positive Supply Voltage for Input Stage."

## LT1715CMS#TRPBF
designator U?
4 ns, 150 MHz Comparator with Independent Input / Output Supplies, 2 Channels, 2.7 to 12 V, 0 to +70 degC, 10-pin MSOP (MS10), Tape and Reel; Generic Part Number: LT1715; Manufacturer: Linear Technology; PartNumber: LT1715CMS#TRPBF; Channels (#): 2; Prop Delay (us): 0.004; Supply Current (uA) Typical: 7500; Vos (mV) Guaranteed: 2.5; Vos (mV) Typical: 0.4; Vs Max (V): 12; Vs Min (V): 2.7; DatasheetVersion: Rev A; PackageReference: MS10; PackageDescription: 10-Pin MSOP, Body 3 x 3 mm, Pitch 0.5 mm; Supplier 1: Digi-Key; Supplier Part Number 1: LT1715CMS#TRPBF-ND; Supplier 2: Newark; Supplier Part Number 2: 57M5785; Features: Comparator, Separate In/Out Power Supply; RoHS: Y; Supply Voltage Range: 2.7 to 12 V; Mounting Technology: Surface Mount; ComponentLink1Description: Manufacturer URL; ComponentLink1URL: http://www.linear.com/; ComponentLink2Description: Datasheet; ComponentLink2URL: http://cds.linear.com/docs/en/datasheet/1715fa.pdf; ComponentLink3Description: Package Specification; ComponentLink3URL: http://cds.linear.com/docs/en/packaging/MSOP_10_05-08-1661.pdf
footprint LT-MS10_N (SOP, 10-Leads, Body 3x3mm, Pitch 0.5mm, IPC Medium Density)
footprint LT-MS10_L (SOP, 10-Leads, Body 3x3mm, Pitch 0.5mm, IPC High Density)
footprint LT-MS10_M (SOP, 10-Leads, Body 3x3mm, Pitch 0.5mm, IPC Low Density)
pins on every part: 5 VEE (power) "Negative Supply Voltage for Input Stage and Substrate.", 9 +VS (power) "Positive Supply Voltage for Output Stage."
part A pins: 1 +IN A (in) "Noninverting Input of Comparator A.", 2 -IN A (in) "Inverting Input of Comparator A.", 8 OUT A (out) "Output of Comparator A."
part B pins: 3 -IN B (in) "Inverting Input of Comparator B.", 4 +IN B (in) "Noninverting Input of Comparator B.", 7 OUT B (out) "Output of Comparator B."
part C pins: 6 GND (power) "Ground for Output Stage.", 10 VCC (power) "Positive Supply Voltage for Input Stage."

## LT1715HMS#PBF
designator U?
4 ns, 150 MHz Comparator with Independent Input / Output Supplies, 2 Channels, 2.7 to 12 V, -40 to +125 degC, 10-pin MSOP (MS10); Generic Part Number: LT1715; Manufacturer: Linear Technology; PartNumber: LT1715HMS#PBF; Channels (#): 2; Prop Delay (us): 0.004; Supply Current (uA) Typical: 7500; Vos (mV) Guaranteed: 2.5; Vos (mV) Typical: 0.4; Vs Max (V): 12; Vs Min (V): 2.7; DatasheetVersion: Rev A; PackageReference: MS10; PackageDescription: 10-Pin MSOP, Body 3 x 3 mm, Pitch 0.5 mm; Supplier 1: Digi-Key; Supplier Part Number 1: LT1715HMS#PBF-ND; Supplier 2: Farnell; Supplier Part Number 2: 2254825; Supplier 3: Newark; Supplier Part Number 3: 19P0902; Features: Comparator, Separate In/Out Power Supply; RoHS: Y; Supply Voltage Range: 2.7 to 12 V; Mounting Technology: Surface Mount; ComponentLink1Description: Manufacturer URL; ComponentLink1URL: http://www.linear.com/; ComponentLink2Description: Datasheet; ComponentLink2URL: http://cds.linear.com/docs/en/datasheet/1715fa.pdf; ComponentLink3Description: Package Specification; ComponentLink3URL: http://cds.linear.com/docs/en/packaging/MSOP_10_05-08-1661.pdf
footprint LT-MS10_N (SOP, 10-Leads, Body 3x3mm, Pitch 0.5mm, IPC Medium Density)
footprint LT-MS10_L (SOP, 10-Leads, Body 3x3mm, Pitch 0.5mm, IPC High Density)
footprint LT-MS10_M (SOP, 10-Leads, Body 3x3mm, Pitch 0.5mm, IPC Low Density)
pins on every part: 5 VEE (power) "Negative Supply Voltage for Input Stage and Substrate.", 9 +VS (power) "Positive Supply Voltage for Output Stage."
part A pins: 1 +IN A (in) "Noninverting Input of Comparator A.", 2 -IN A (in) "Inverting Input of Comparator A.", 8 OUT A (out) "Output of Comparator A."
part B pins: 3 -IN B (in) "Inverting Input of Comparator B.", 4 +IN B (in) "Noninverting Input of Comparator B.", 7 OUT B (out) "Output of Comparator B."
part C pins: 6 GND (power) "Ground for Output Stage.", 10 VCC (power) "Positive Supply Voltage for Input Stage."

## LT1715HMS#TRPBF
designator U?
4 ns, 150 MHz Comparator with Independent Input / Output Supplies, 2 Channels, 2.7 to 12 V, -40 to +125 degC, 10-pin MSOP (MS10), Tape and Reel; Generic Part Number: LT1715; Manufacturer: Linear Technology; PartNumber: LT1715HMS#TRPBF; Channels (#): 2; Prop Delay (us): 0.004; Supply Current (uA) Typical: 7500; Vos (mV) Guaranteed: 2.5; Vos (mV) Typical: 0.4; Vs Max (V): 12; Vs Min (V): 2.7; DatasheetVersion: Rev A; PackageReference: MS10; PackageDescription: 10-Pin MSOP, Body 3 x 3 mm, Pitch 0.5 mm; Supplier 1: Digi-Key; Supplier Part Number 1: LT1715HMS#TRPBF-ND; Features: Comparator, Separate In/Out Power Supply; RoHS: Y; Supply Voltage Range: 2.7 to 12 V; Mounting Technology: Surface Mount; ComponentLink1Description: Manufacturer URL; ComponentLink1URL: http://www.linear.com/; ComponentLink2Description: Datasheet; ComponentLink2URL: http://cds.linear.com/docs/en/datasheet/1715fa.pdf; ComponentLink3Description: Package Specification; ComponentLink3URL: http://cds.linear.com/docs/en/packaging/MSOP_10_05-08-1661.pdf
footprint LT-MS10_N (SOP, 10-Leads, Body 3x3mm, Pitch 0.5mm, IPC Medium Density)
footprint LT-MS10_L (SOP, 10-Leads, Body 3x3mm, Pitch 0.5mm, IPC High Density)
footprint LT-MS10_M (SOP, 10-Leads, Body 3x3mm, Pitch 0.5mm, IPC Low Density)
pins on every part: 5 VEE (power) "Negative Supply Voltage for Input Stage and Substrate.", 9 +VS (power) "Positive Supply Voltage for Output Stage."
part A pins: 1 +IN A (in) "Noninverting Input of Comparator A.", 2 -IN A (in) "Inverting Input of Comparator A.", 8 OUT A (out) "Output of Comparator A."
part B pins: 3 -IN B (in) "Inverting Input of Comparator B.", 4 +IN B (in) "Noninverting Input of Comparator B.", 7 OUT B (out) "Output of Comparator B."
part C pins: 6 GND (power) "Ground for Output Stage.", 10 VCC (power) "Positive Supply Voltage for Input Stage."

## LT1715IMS
designator U?
4 ns, 150 MHz Comparator with Independent Input / Output Supplies, 2 Channels, 2.7 to 12 V, -40 to +85 degC, 10-pin MSOP (MS10); Generic Part Number: LT1715; Manufacturer: Linear Technology; PartNumber: LT1715IMS; Channels (#): 2; Prop Delay (us): 0.004; Supply Current (uA) Typical: 7500; Vos (mV) Guaranteed: 2.5; Vos (mV) Typical: 0.4; Vs Max (V): 12; Vs Min (V): 2.7; DatasheetVersion: Rev A; PackageReference: MS10; PackageDescription: 10-Pin MSOP, Body 3 x 3 mm, Pitch 0.5 mm; Supplier 1: Digi-Key; Supplier Part Number 1: LT1715IMS-ND; Supplier 2: Newark; Supplier Part Number 2: 57M5786; Features: Comparator, Separate In/Out Power Supply; RoHS: N; Supply Voltage Range: 2.7 to 12 V; Mounting Technology: Surface Mount; ComponentLink1Description: Manufacturer URL; ComponentLink1URL: http://www.linear.com/; ComponentLink2Description: Datasheet; ComponentLink2URL: http://cds.linear.com/docs/en/datasheet/1715fa.pdf; ComponentLink3Description: Package Specification; ComponentLink3URL: http://cds.linear.com/docs/en/packaging/MSOP_10_05-08-1661.pdf
footprint LT-MS10_N (SOP, 10-Leads, Body 3x3mm, Pitch 0.5mm, IPC Medium Density)
footprint LT-MS10_L (SOP, 10-Leads, Body 3x3mm, Pitch 0.5mm, IPC High Density)
footprint LT-MS10_M (SOP, 10-Leads, Body 3x3mm, Pitch 0.5mm, IPC Low Density)
pins on every part: 5 VEE (power) "Negative Supply Voltage for Input Stage and Substrate.", 9 +VS (power) "Positive Supply Voltage for Output Stage."
part A pins: 1 +IN A (in) "Noninverting Input of Comparator A.", 2 -IN A (in) "Inverting Input of Comparator A.", 8 OUT A (out) "Output of Comparator A."
part B pins: 3 -IN B (in) "Inverting Input of Comparator B.", 4 +IN B (in) "Noninverting Input of Comparator B.", 7 OUT B (out) "Output of Comparator B."
part C pins: 6 GND (power) "Ground for Output Stage.", 10 VCC (power) "Positive Supply Voltage for Input Stage."

## LT1715IMS#PBF
designator U?
4 ns, 150 MHz Comparator with Independent Input / Output Supplies, 2 Channels, 2.7 to 12 V, -40 to +85 degC, 10-pin MSOP (MS10); Generic Part Number: LT1715; Manufacturer: Linear Technology; PartNumber: LT1715IMS#PBF; Channels (#): 2; Prop Delay (us): 0.004; Supply Current (uA) Typical: 7500; Vos (mV) Guaranteed: 2.5; Vos (mV) Typical: 0.4; Vs Max (V): 12; Vs Min (V): 2.7; DatasheetVersion: Rev A; PackageReference: MS10; PackageDescription: 10-Pin MSOP, Body 3 x 3 mm, Pitch 0.5 mm; Supplier 1: Digi-Key; Supplier Part Number 1: LT1715IMS#PBF-ND; Supplier 2: Farnell; Supplier Part Number 2: 2294776; Supplier 3: Newark; Supplier Part Number 3: 57M5787; Features: Comparator, Separate In/Out Power Supply; RoHS: Y; Supply Voltage Range: 2.7 to 12 V; Mounting Technology: Surface Mount; ComponentLink1Description: Manufacturer URL; ComponentLink1URL: http://www.linear.com/; ComponentLink2Description: Datasheet; ComponentLink2URL: http://cds.linear.com/docs/en/datasheet/1715fa.pdf; ComponentLink3Description: Package Specification; ComponentLink3URL: http://cds.linear.com/docs/en/packaging/MSOP_10_05-08-1661.pdf
footprint LT-MS10_N (SOP, 10-Leads, Body 3x3mm, Pitch 0.5mm, IPC Medium Density)
footprint LT-MS10_L (SOP, 10-Leads, Body 3x3mm, Pitch 0.5mm, IPC High Density)
footprint LT-MS10_M (SOP, 10-Leads, Body 3x3mm, Pitch 0.5mm, IPC Low Density)
pins on every part: 5 VEE (power) "Negative Supply Voltage for Input Stage and Substrate.", 9 +VS (power) "Positive Supply Voltage for Output Stage."
part A pins: 1 +IN A (in) "Noninverting Input of Comparator A.", 2 -IN A (in) "Inverting Input of Comparator A.", 8 OUT A (out) "Output of Comparator A."
part B pins: 3 -IN B (in) "Inverting Input of Comparator B.", 4 +IN B (in) "Noninverting Input of Comparator B.", 7 OUT B (out) "Output of Comparator B."
part C pins: 6 GND (power) "Ground for Output Stage.", 10 VCC (power) "Positive Supply Voltage for Input Stage."

## LT1715IMS#TR
designator U?
4 ns, 150 MHz Comparator with Independent Input / Output Supplies, 2 Channels, 2.7 to 12 V, -40 to +85 degC, 10-pin MSOP (MS10), Tape and Reel; Generic Part Number: LT1715; Manufacturer: Linear Technology; PartNumber: LT1715IMS#TR; Channels (#): 2; Prop Delay (us): 0.004; Supply Current (uA) Typical: 7500; Vos (mV) Guaranteed: 2.5; Vos (mV) Typical: 0.4; Vs Max (V): 12; Vs Min (V): 2.7; DatasheetVersion: Rev A; PackageReference: M10; PackageDescription: 10-Pin MSOP, Body 3 x 3 mm, Pitch 0.5 mm; Supplier 1: Digi-Key; Supplier Part Number 1: LT1715IMSTR-ND; Supplier 2: Newark; Supplier Part Number 2: 57M5788; Features: Comparator, Separate In/Out Power Supply; RoHS: N; Supply Voltage Range: 2.7 to 12 V; Mounting Technology: Surface Mount; ComponentLink1Description: Manufacturer URL; ComponentLink1URL: http://www.linear.com/; ComponentLink2Description: Datasheet; ComponentLink2URL: http://cds.linear.com/docs/en/datasheet/1715fa.pdf; ComponentLink3Description: Package Specification; ComponentLink3URL: http://cds.linear.com/docs/en/packaging/MSOP_10_05-08-1661.pdf
footprint LT-M10_N (SOP, 10-Leads, Body 3x3mm, Pitch 0.5mm, IPC Medium Density)
footprint LT-M10_L (SOP, 10-Leads, Body 3x3mm, Pitch 0.5mm, IPC High Density)
footprint LT-M10_M (SOP, 10-Leads, Body 3x3mm, Pitch 0.5mm, IPC Low Density)
pins on every part: 5 VEE (power) "Negative Supply Voltage for Input Stage and Substrate.", 9 +VS (power) "Positive Supply Voltage for Output Stage."
part A pins: 1 +IN A (in) "Noninverting Input of Comparator A.", 2 -IN A (in) "Inverting Input of Comparator A.", 8 OUT A (out) "Output of Comparator A."
part B pins: 3 -IN B (in) "Inverting Input of Comparator B.", 4 +IN B (in) "Noninverting Input of Comparator B.", 7 OUT B (out) "Output of Comparator B."
part C pins: 6 GND (power) "Ground for Output Stage.", 10 VCC (power) "Positive Supply Voltage for Input Stage."